# EAGLE library part LT3514 (library senior_design_library)
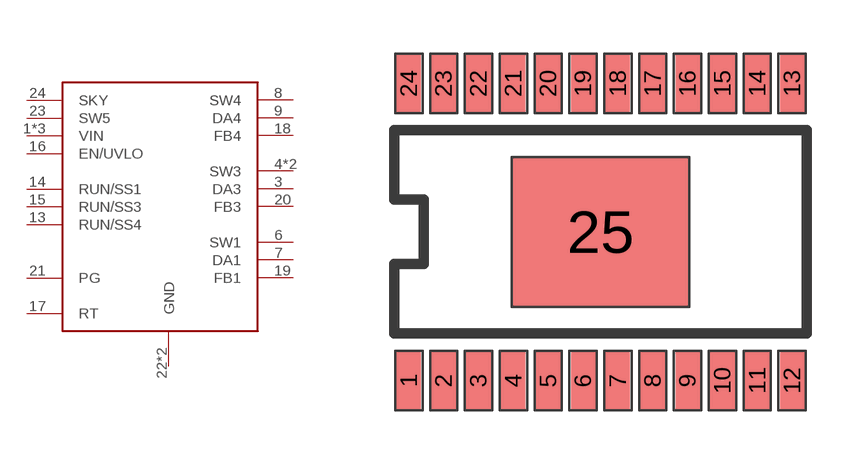
[diagram p0: symbol with the pads of TSSOP24AA(FE); footprint TSSOP24AA(FE)]

Designator prefix -

## LT3514  [TSSOP24AA(FE)]
1  VIN
3  DA3
4  SW3
5  SW3
6  SW1
7  DA1
8  SW4
9  DA4
11  VIN
12  VIN
13  RUN/SS4
14  RUN/SS1
15  RUN/SS3
16  EN/UVLO
17  RT
18  FB4
19  FB1
20  FB3
21  PG
22  GND
23  SW5
24  SKY
25  GND

## Footprint TSSOP24AA(FE) (pad centres in mm)
Package generated from: TSSOP24AA(FE).asc (!PADS-POWERPCB-V9.3-BASIC! DESIGN DATABASE ASCII FILE 1.0) with :import-pads-powerpcb-v5.ulp Version 1.0.1 at 04.10.2012 14:11:40
smd 0.675 x 1.575: 1 -5.362,-4.162; 2 -4.388,-4.162; 3 -3.413,-4.162; 4 -2.438,-4.162; 5 -1.462,-4.162; 6 -0.487,-4.162; 7 0.487,-4.162; 8 1.462,-4.162; 9 2.438,-4.162; 10 3.413,-4.162; 11 4.388,-4.162; 12 5.362,-4.162; 13 5.362,4.162; 14 4.388,4.162; 15 3.413,4.162; 16 2.438,4.162; 17 1.462,4.162; 18 0.487,4.162; 19 -0.487,4.162; 20 -1.462,4.162; 21 -2.438,4.162; 22 -3.413,4.162; 23 -4.388,4.162; 24 -5.362,4.162
smd 4.875 x 4.11: 25 0,0